# Altium footprint library pcb-mount DC Jacks.PcbLib: 1 footprints
Each footprint in its own frame and in the unit in brackets; x right, y up, seen from the top. Pads: shape width x height; smd on the part's side, far side on the other; paste and mask are expansions set on the pad; w line width, h text height; cw(c..) or ccw(c..) is an arc to the next point about the centre after c.
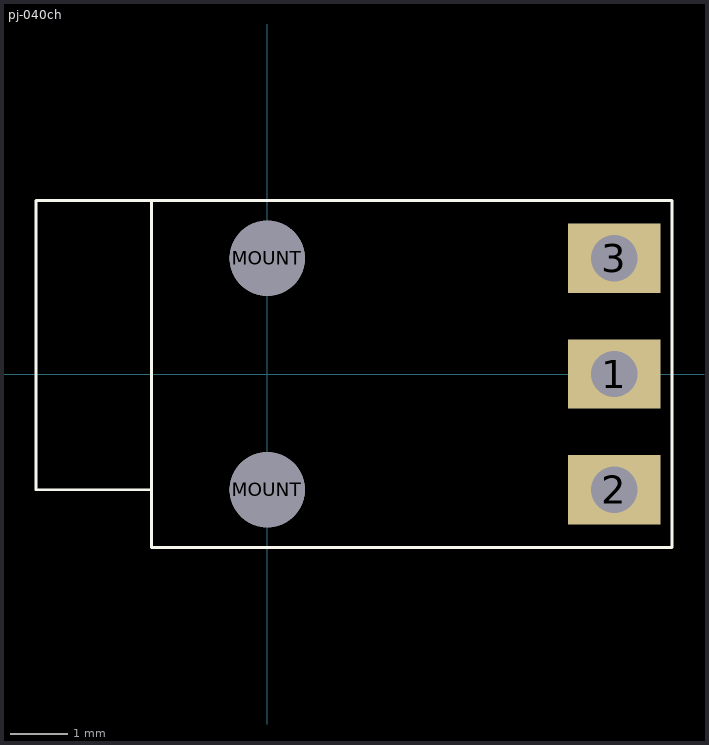
[diagram p0: the footprint, top view; thin cyan lines are the x and y axes]

## pj-040ch [mm] "PCB-mount NC DC Jack"
height 5
pads (5):
  rect 1.6x1.2 hole 0.8 square: 1(6,0) 2(6,-2) 3(6,2)
  round 1.3 hole 1.3: MOUNT(0,-2) MOUNT(0,2)
Top Overlay:
  lines w0.05: -2,-2 -4,-2 -4,3 -2,3 ; -2,3 7,3 7,-3 -2,-3 -2,3
3D body: height 5, standoff -3, extent -4,-3 7,3